# EAGLE library part TRAM6 (library Transputers)
TRAM size-6 board INMOS Standard Transputer Boards Source: The Transputer development and iq systems Databook 1991. Arto Kyyhkynen, artoky@dlc.fi
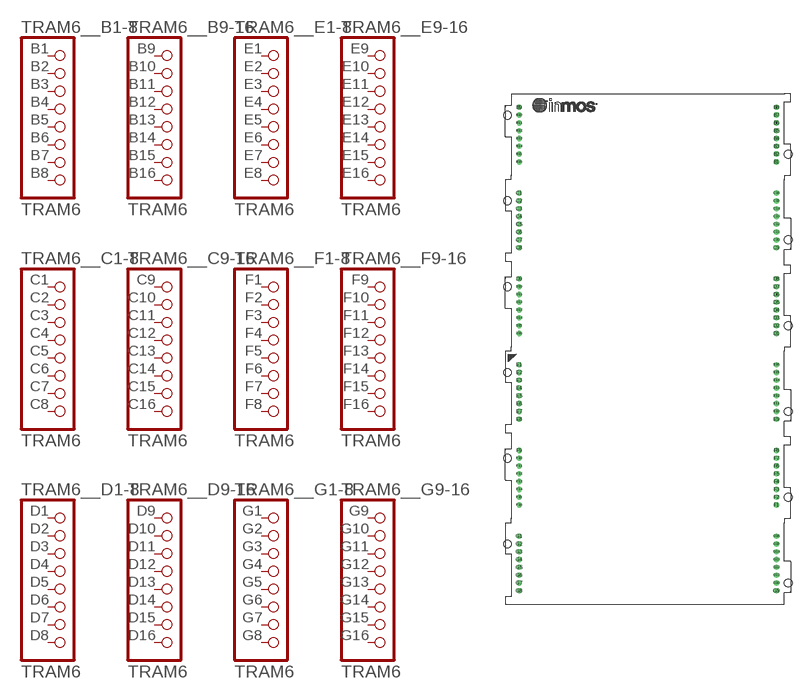
[diagram p14: symbol with the pads of TRAM_SIZE6; footprint TRAM_SIZE6]

Designator prefix TRAM6_; gates _B1-8=TRAM1PINS _B9-16=TRAM1PINS _C1-8=TRAM1PINS _C9-16=TRAM1PINS _D1-8=TRAM1PINS _D9-16=TRAM1PINS _E1-8=TRAM1PINS _E9-16=TRAM1PINS _F1-8=TRAM1PINS _F9-16=TRAM1PINS _G1-8=TRAM1PINS _G9-16=TRAM1PINS

## TRAM6  [TRAM_SIZE6]
B1  _B1-8:1  pas
B2  _B1-8:2  pas
B3  _B1-8:3  pas
B4  _B1-8:4  pas
B5  _B1-8:5  pas
B6  _B1-8:6  pas
B7  _B1-8:7  pas
B8  _B1-8:8  pas
B9  _B9-16:1  pas
B10  _B9-16:2  pas
B11  _B9-16:3  pas
B12  _B9-16:4  pas
B13  _B9-16:5  pas
B14  _B9-16:6  pas
B15  _B9-16:7  pas
B16  _B9-16:8  pas
C1  _C1-8:1  pas
C2  _C1-8:2  pas
C3  _C1-8:3  pas
C4  _C1-8:4  pas
C5  _C1-8:5  pas
C6  _C1-8:6  pas
C7  _C1-8:7  pas
C8  _C1-8:8  pas
C9  _C9-16:1  pas
C10  _C9-16:2  pas
C11  _C9-16:3  pas
C12  _C9-16:4  pas
C13  _C9-16:5  pas
C14  _C9-16:6  pas
C15  _C9-16:7  pas
C16  _C9-16:8  pas
D1  _D1-8:1  pas
D2  _D1-8:2  pas
D3  _D1-8:3  pas
D4  _D1-8:4  pas
D5  _D1-8:5  pas
D6  _D1-8:6  pas
D7  _D1-8:7  pas
D8  _D1-8:8  pas
D9  _D9-16:1  pas
D10  _D9-16:2  pas
D11  _D9-16:3  pas
D12  _D9-16:4  pas
D13  _D9-16:5  pas
D14  _D9-16:6  pas
D15  _D9-16:7  pas
D16  _D9-16:8  pas
E1  _E1-8:1  pas
E2  _E1-8:2  pas
E3  _E1-8:3  pas
E4  _E1-8:4  pas
E5  _E1-8:5  pas
E6  _E1-8:6  pas
E7  _E1-8:7  pas
E8  _E1-8:8  pas
E9  _E9-16:1  pas
E10  _E9-16:2  pas
E11  _E9-16:3  pas
E12  _E9-16:4  pas
E13  _E9-16:5  pas
E14  _E9-16:6  pas
E15  _E9-16:7  pas
E16  _E9-16:8  pas
F1  _F1-8:1  pas
F2  _F1-8:2  pas
F3  _F1-8:3  pas
F4  _F1-8:4  pas
F5  _F1-8:5  pas
F6  _F1-8:6  pas
F7  _F1-8:7  pas
F8  _F1-8:8  pas
F9  _F9-16:1  pas
F10  _F9-16:2  pas
F11  _F9-16:3  pas
F12  _F9-16:4  pas
F13  _F9-16:5  pas
F14  _F9-16:6  pas
F15  _F9-16:7  pas
F16  _F9-16:8  pas
G1  _G1-8:1  pas
G2  _G1-8:2  pas
G3  _G1-8:3  pas
G4  _G1-8:4  pas
G5  _G1-8:5  pas
G6  _G1-8:6  pas
G7  _G1-8:7  pas
G8  _G1-8:8  pas
G9  _G9-16:1  pas
G10  _G9-16:2  pas
G11  _G9-16:3  pas
G12  _G9-16:4  pas
G13  _G9-16:5  pas
G14  _G9-16:6  pas
G15  _G9-16:7  pas
G16  _G9-16:8  pas

## Footprint TRAM_SIZE6 (pad centres in mm)
TRAM size-6
drill 1.143 pad 1.676 round: B1 83.82,-17.78; B2 83.82,-15.24; B3 83.82,-12.7; B4 83.82,-10.16; B5 83.82,-7.62; B6 83.82,-5.08; B7 83.82,-2.54; B8 83.82,0; B9 0,0; B10 0,-2.54; B11 0,-5.08; B12 0,-7.62; B13 0,-10.16; B14 0,-12.7; B15 0,-15.24; B16 0,-17.78; C1 0,-27.94; C2 0,-30.48; C3 0,-33.02; C4 0,-35.56; C5 0,-38.1; C6 0,-40.64; C7 0,-43.18; C8 0,-45.72; C9 83.82,-45.72; C10 83.82,-43.18; C11 83.82,-40.64; C12 83.82,-38.1; C13 83.82,-35.56; C14 83.82,-33.02; C15 83.82,-30.48; C16 83.82,-27.94; D1 83.82,-73.66; D2 83.82,-71.12; D3 83.82,-68.58; D4 83.82,-66.04; D5 83.82,-63.5; D6 83.82,-60.96; D7 83.82,-58.42; D8 83.82,-55.88; D9 0,-55.88; D10 0,-58.42; D11 0,-60.96; D12 0,-63.5; D13 0,-66.04; D14 0,-68.58; D15 0,-71.12; D16 0,-73.66; E1 0,-83.82; E2 0,-86.36; E3 0,-88.9; E4 0,-91.44; E5 0,-93.98; E6 0,-96.52; E7 0,-99.06; E8 0,-101.6; E9 83.82,-101.6; E10 83.82,-99.06; E11 83.82,-96.52; E12 83.82,-93.98; E13 83.82,-91.44; E14 83.82,-88.9; E15 83.82,-86.36; E16 83.82,-83.82; F1 83.82,-129.54; F2 83.82,-127; F3 83.82,-124.46; F4 83.82,-121.92; F5 83.82,-119.38; F6 83.82,-116.84; F7 83.82,-114.3; F8 83.82,-111.76; F9 0,-111.76; F10 0,-114.3; F11 0,-116.84; F12 0,-119.38; F13 0,-121.92; F14 0,-124.46; F15 0,-127; F16 0,-129.54; G1 0,-139.7; G2 0,-142.24; G3 0,-144.78; G4 0,-147.32; G5 0,-149.86; G6 0,-152.4; G7 0,-154.94; G8 0,-157.48; G9 83.82,-157.48; G10 83.82,-154.94; G11 83.82,-152.4; G12 83.82,-149.86; G13 83.82,-147.32; G14 83.82,-144.78; G15 83.82,-142.24; G16 83.82,-139.7
hole 2.54 at -3.81,-2.54
hole 2.54 at -3.81,-30.48
hole 2.54 at -3.81,-58.42
hole 2.54 at -3.81,-86.36
hole 2.54 at -3.81,-114.3
hole 2.54 at -3.81,-142.24
hole 2.54 at 87.63,-154.94
hole 2.54 at 87.63,-127
hole 2.54 at 87.63,-99.06
hole 2.54 at 87.63,-71.12
hole 2.54 at 87.63,-43.18
hole 2.54 at 87.63,-15.24